# Altium schematic symbol library supertex.SCHLIB: 2 symbols
Pins are listed as number, name and electrical type; pins without a type are passive.

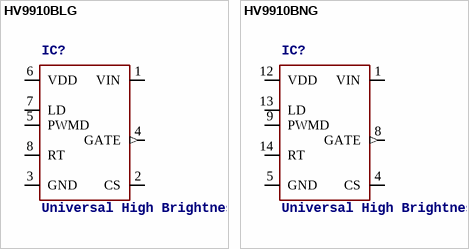
[diagram p0: symbols HV9910BLG to HV9910BNG]

## HV9910BLG
designator IC?, comment Universal High Brightness LED Driver   Source: www.supertex.com .. led_driver_ics_SG.pdf
MPN: MXHV9910B; OC_FARNELL: unknown; OC_NEWARK: 15R9731
footprint SOIC-08LG
pins: 1 VIN, 2 CS, 3 GND (power), 4 GATE (out), 5 PWMD, 6 VDD (power), 7 LD, 8 RT

## HV9910BNG
designator IC?, comment Universal High Brightness LED Driver   Source: www.supertex.com .. led_driver_ics_SG.pdf
OC_FARNELL: unknown; OC_NEWARK: unknown
footprint SOIC-16NG
pins: 1 VIN, 4 CS, 5 GND (power), 8 GATE (out), 9 PWMD, 12 VDD (power), 13 LD, 14 RT